# Altium integrated library NSC Switch Caps.IntLib: 108 symbols (part 2 of 3)
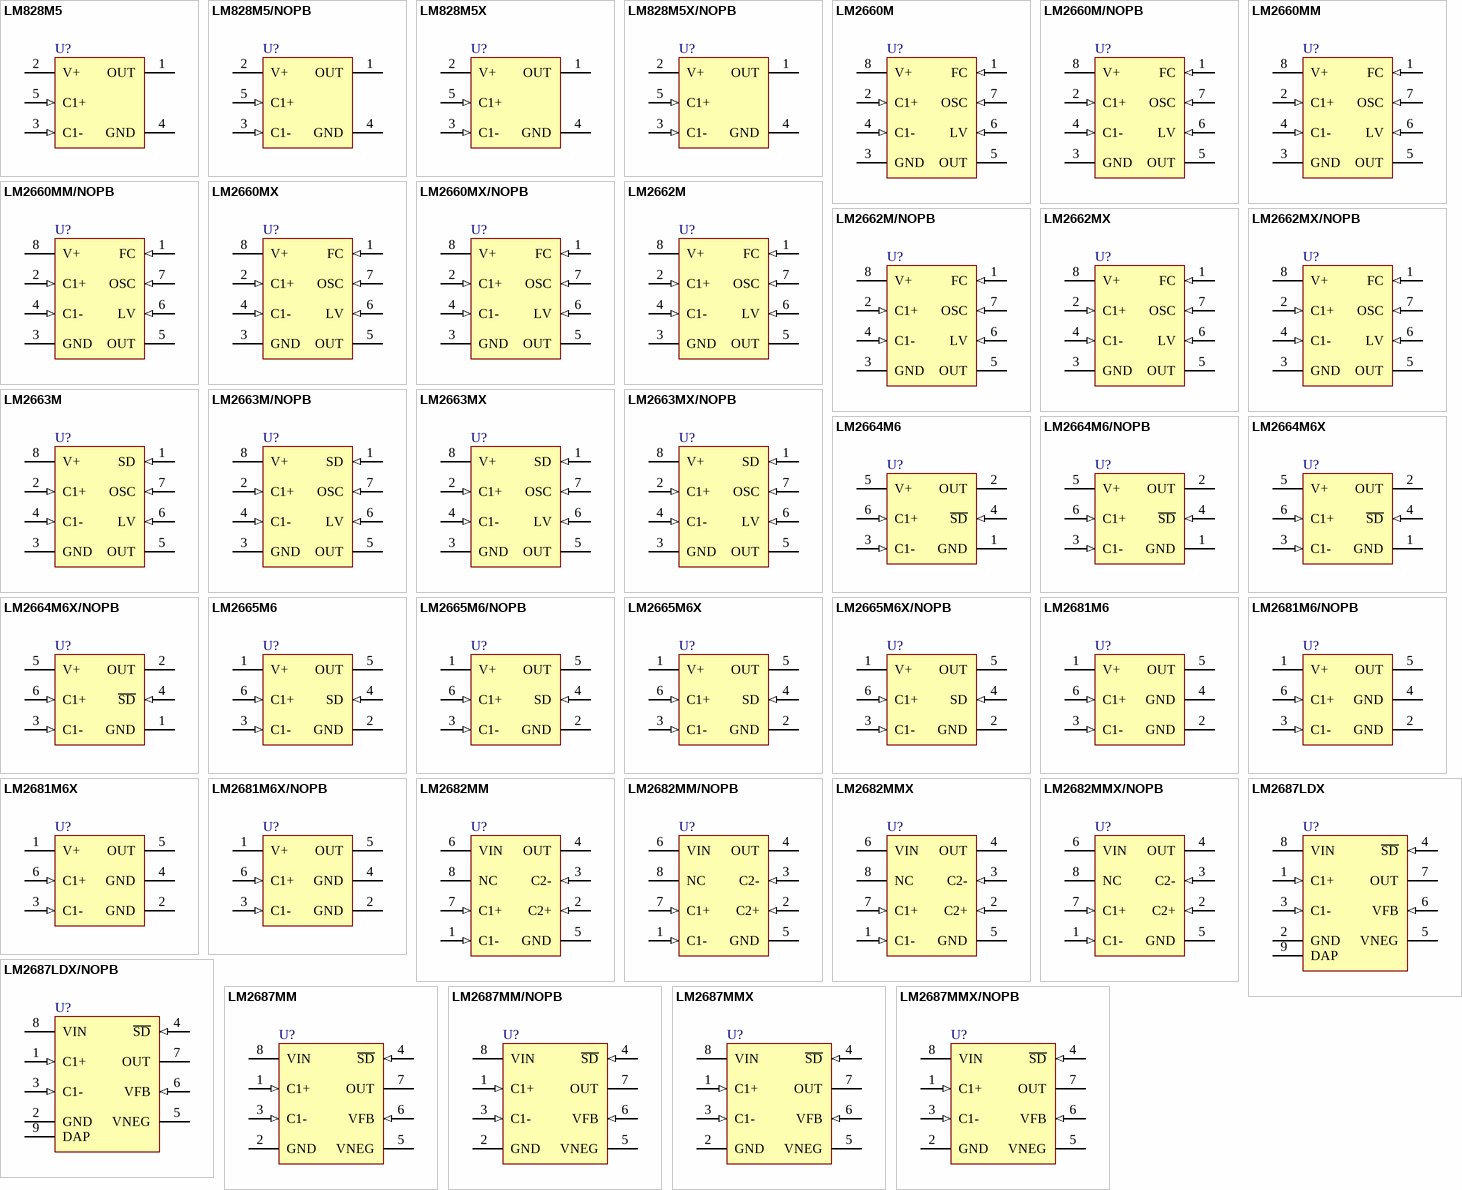
[diagram p3: symbols LM828M5 to LM2687MMX/NOPB]

## LM2687MMX/NOPB
designator U?
Low Noise Regulated Switched Capacitor Voltage Inverter, 8-pin Mini SOIC, Pb-Free; PartNumber: LM2687MMX/NOPB; Manufacturer: National Semiconductor; PackageTopMarking: ZXTT*S12A; PowerWise: N; CompType: Switch Caps; Published: 1-Mar-2010; DatasheetVersion: Apr-2003; PackageVersion: revF, Apr-2008; PackageReference: MUA08A; Publisher: Altium Limited; PackageDescription: MINI SOIC, .118 x .118 x .034in, 8 Lead, .0256in Pitch; Supplier 1: Digi-Key; Supplier Part Number 1: LM2687MMX-ND; RoHS: Y; PinCount: 8; Code_JEDEC: MO-187-AA; ComponentLink1Description: LM2687 Datasheet; ComponentLink1URL: http://www.national.com/ds/LM/LM2687.pdf; ComponentLink2Description: LM2687 Web Page; ComponentLink2URL: http://www.national.com/pf/LM/LM2687.html; ComponentLink3Description: MUA08A Package Page; ComponentLink3URL: http://www.national.com/packaging/folders/mua08a.html
footprint MUA08A_N (TSOP, 8-Leads, Body 3x3mm, Pitch 0.65mm, IPC Medium Density)
footprint MUA08A_L (TSOP, 8-Leads, Body 3x3mm, Pitch 0.65mm, IPC High Density)
footprint MUA08A_M (TSOP, 8-Leads, Body 3x3mm, Pitch 0.65mm, IPC Low Density)
pins: 1 C1+ (in), 2 GND (power), 3 C1- (in), 4 ~{SD} (in), 5 VNEG (power), 6 VFB (in), 7 OUT (power), 8 VIN (power)

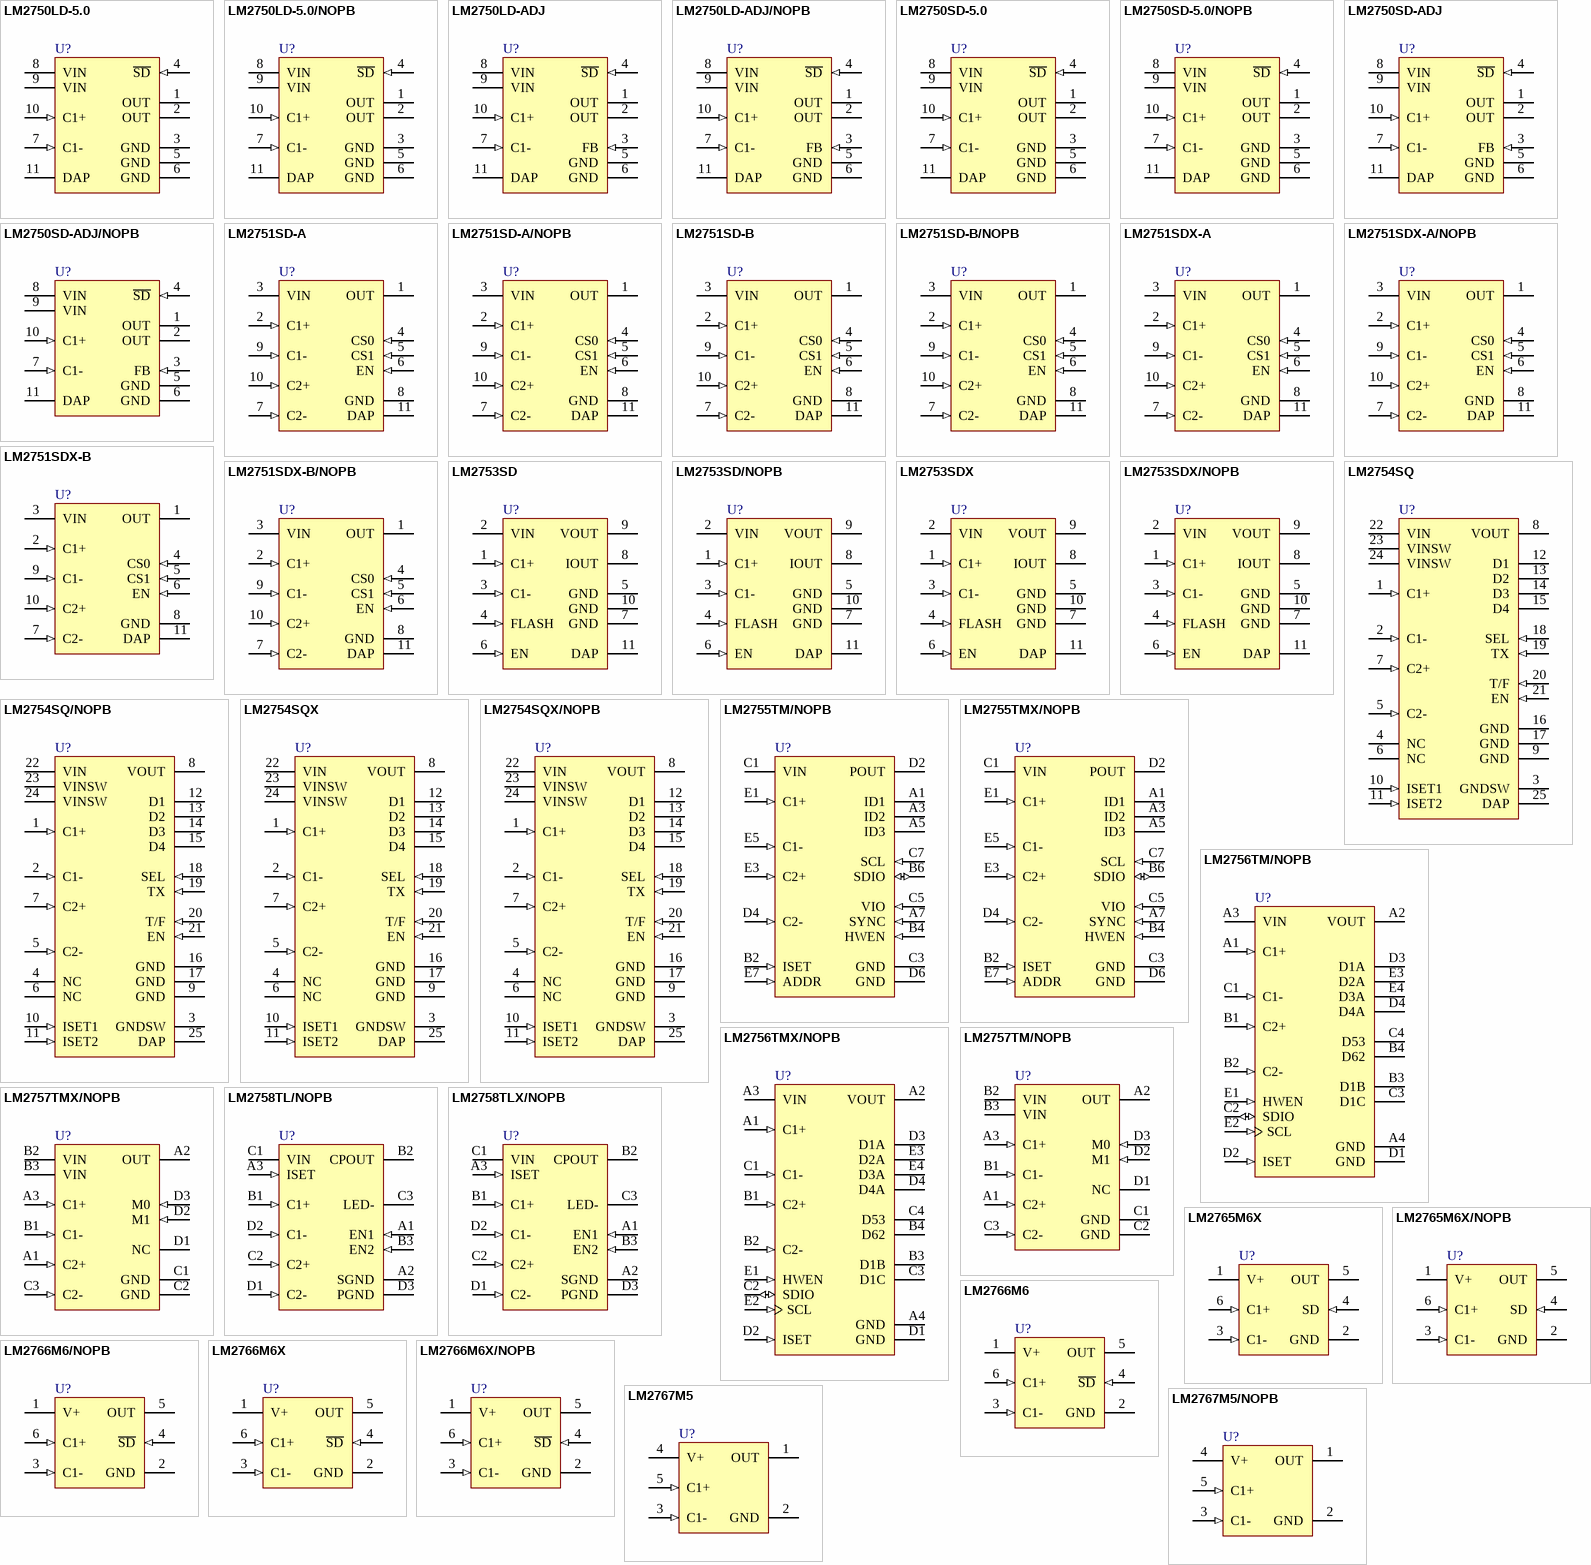
[diagram p1: symbols LM2750LD-5.0 to LM2767M5/NOPB]

## LM2750LD-5.0
designator U?
Low Noise Regulator Switched Capacitor Boost Regulator, 10-pin LLP; PartNumber: LM2750LD-5.0; Manufacturer: National Semiconductor; PackageTopMarking: ZXYTT*S002B; PowerWise: N; CompType: Switch Caps; Published: 4-Dec-2008; DatasheetVersion: Dec-2005; PackageVersion: revB, Jan-2003; PackageReference: LDA10A; Publisher: Altium Limited; PackageDescription: LLP, Plastic, Dual, 3 x 3 x 0.75mm Body, 10 Lead, 0.5mm Pitch; Supplier 1: Farnell; Supplier Part Number 1: 8221979; RoHS: N; PinCount: 10; ComponentLink1Description: LM2750 Datasheet; ComponentLink1URL: http://www.national.com/ds/LM/LM2750.pdf; ComponentLink2Description: LM2750 Web Page; ComponentLink2URL: http://www.national.com/pf/LM/LM2750.html; ComponentLink3Description: LDA10A Package Page; ComponentLink3URL: http://www.national.com/packaging/folders/lda10a.html
footprint LDA10A (PSON, 10-Leads, Body 3x3mm, Pitch 0.5mm, NSC Recommended)
pins: 1 OUT (power), 2 OUT (power), 3 GND (power), 4 ~{SD} (in), 5 GND (power), 6 GND (power), 7 C1- (in), 8 VIN (power), 9 VIN (power), 10 C1+ (in), 11 DAP (power)

## LM2750LD-5.0/NOPB
designator U?
Low Noise Regulator Switched Capacitor Boost Regulator, 10-pin LLP, Pb-Free; PartNumber: LM2750LD-5.0/NOPB; Manufacturer: National Semiconductor; PackageTopMarking: ZXYTT*S002B; PowerWise: N; CompType: Switch Caps; Published: 1-Mar-2010; DatasheetVersion: Dec-2005; PackageVersion: revB, Jan-2003; PackageReference: LDA10A; Publisher: Altium Limited; PackageDescription: LLP, Plastic, Dual, 3 x 3 x 0.75mm Body, 10 Lead, 0.5mm Pitch; Supplier 1: Digi-Key; Supplier Part Number 1: LM2750LD-5.0TR-ND; Supplier 2: Digi-Key; Supplier Part Number 2: LM2750LD-5.0CT-ND; Supplier 3: Digi-Key; Supplier Part Number 3: LM2750LD-5.0DKR-ND; Supplier 4: Farnell; Supplier Part Number 4: 1559420; RoHS: Y; PinCount: 10; ComponentLink1Description: LM2750 Datasheet; ComponentLink1URL: http://www.national.com/ds/LM/LM2750.pdf; ComponentLink2Description: LM2750 Web Page; ComponentLink2URL: http://www.national.com/pf/LM/LM2750.html; ComponentLink3Description: LDA10A Package Page; ComponentLink3URL: http://www.national.com/packaging/folders/lda10a.html
footprint LDA10A (PSON, 10-Leads, Body 3x3mm, Pitch 0.5mm, NSC Recommended)
pins: 1 OUT (power), 2 OUT (power), 3 GND (power), 4 ~{SD} (in), 5 GND (power), 6 GND (power), 7 C1- (in), 8 VIN (power), 9 VIN (power), 10 C1+ (in), 11 DAP (power)

## LM2750LD-ADJ
designator U?
Low Noise Regulator Switched Capacitor Boost Regulator, 10-pin LLP; PartNumber: LM2750LD-ADJ; Manufacturer: National Semiconductor; PackageTopMarking: ZXYTT*S003B; PowerWise: N; CompType: Switch Caps; Published: 4-Dec-2008; DatasheetVersion: Dec-2005; PackageVersion: revB, Jan-2003; PackageReference: LDA10A; Publisher: Altium Limited; PackageDescription: LLP, Plastic, Dual, 3 x 3 x 0.75mm Body, 10 Lead, 0.5mm Pitch; Supplier 1: Farnell; Supplier Part Number 1: 1312689; RoHS: N; PinCount: 10; ComponentLink1Description: LM2750 Datasheet; ComponentLink1URL: http://www.national.com/ds/LM/LM2750.pdf; ComponentLink2Description: LM2750 Web Page; ComponentLink2URL: http://www.national.com/pf/LM/LM2750.html; ComponentLink3Description: LDA10A Package Page; ComponentLink3URL: http://www.national.com/packaging/folders/lda10a.html
footprint LDA10A (PSON, 10-Leads, Body 3x3mm, Pitch 0.5mm, NSC Recommended)
pins: 1 OUT (power), 2 OUT (power), 3 FB (in), 4 ~{SD} (in), 5 GND (power), 6 GND (power), 7 C1- (in), 8 VIN (power), 9 VIN (power), 10 C1+ (in), 11 DAP (power)

## LM2750LD-ADJ/NOPB
designator U?
Low Noise Regulator Switched Capacitor Boost Regulator, 10-pin LLP, Pb-Free; PartNumber: LM2750LD-ADJ/NOPB; Manufacturer: National Semiconductor; PackageTopMarking: ZXYTT*S003B; PowerWise: N; CompType: Switch Caps; Published: 1-Mar-2010; DatasheetVersion: Dec-2005; PackageVersion: revB, Jan-2003; PackageReference: LDA10A; Publisher: Altium Limited; PackageDescription: LLP, Plastic, Dual, 3 x 3 x 0.75mm Body, 10 Lead, 0.5mm Pitch; Supplier 1: Digi-Key; Supplier Part Number 1: LM2750LD-ADJTR-ND; Supplier 2: Digi-Key; Supplier Part Number 2: LM2750LD-ADJCT-ND; Supplier 3: Digi-Key; Supplier Part Number 3: LM2750LD-ADJDKR-ND; RoHS: Y; PinCount: 10; ComponentLink1Description: LM2750 Datasheet; ComponentLink1URL: http://www.national.com/ds/LM/LM2750.pdf; ComponentLink2Description: LM2750 Web Page; ComponentLink2URL: http://www.national.com/pf/LM/LM2750.html; ComponentLink3Description: LDA10A Package Page; ComponentLink3URL: http://www.national.com/packaging/folders/lda10a.html
footprint LDA10A (PSON, 10-Leads, Body 3x3mm, Pitch 0.5mm, NSC Recommended)
pins: 1 OUT (power), 2 OUT (power), 3 FB (in), 4 ~{SD} (in), 5 GND (power), 6 GND (power), 7 C1- (in), 8 VIN (power), 9 VIN (power), 10 C1+ (in), 11 DAP (power)

## LM2750SD-5.0
designator U?
Low Noise Regulator Switched Capacitor Boost Regulator, 10-pin LLP; PartNumber: LM2750SD-5.0; Manufacturer: National Semiconductor; PackageTopMarking: ZXYTT*S005B; PowerWise: N; CompType: Switch Caps; Published: 4-Dec-2008; DatasheetVersion: Dec-2005; PackageVersion: revA, Oct-2003; PackageReference: SDA10A; Publisher: Altium Limited; PackageDescription: LLP, Plastic, Dual, 3 x 3 x 0.8mm Body, 10 Lead, 0.5mm Pitch, No Pullback; RoHS: N; PinCount: 10; ComponentLink1Description: LM2750 Datasheet; ComponentLink1URL: http://www.national.com/ds/LM/LM2750.pdf; ComponentLink2Description: LM2750 Web Page; ComponentLink2URL: http://www.national.com/pf/LM/LM2750.html; ComponentLink3Description: SDA10A Package Page; ComponentLink3URL: http://www.national.com/packaging/folders/sda10a.html
footprint SDA10A (SON, 10-Leads, Body 3x3 mm, Pitch 0.5mm, NSC Recommended)
pins: 1 OUT (power), 2 OUT (power), 3 GND (power), 4 ~{SD} (in), 5 GND (power), 6 GND (power), 7 C1- (in), 8 VIN (power), 9 VIN (power), 10 C1+ (in), 11 DAP (power)

## LM2750SD-5.0/NOPB
designator U?
Low Noise Regulator Switched Capacitor Boost Regulator, 10-pin LLP, Pb-Free; PartNumber: LM2750SD-5.0/NOPB; Manufacturer: National Semiconductor; PackageTopMarking: ZXYTT*S005B; PowerWise: N; CompType: Switch Caps; Published: 1-Mar-2010; DatasheetVersion: Dec-2005; PackageVersion: revA, Oct-2003; PackageReference: SDA10A; Publisher: Altium Limited; PackageDescription: LLP, Plastic, Dual, 3 x 3 x 0.8mm Body, 10 Lead, 0.5mm Pitch, No Pullback; Supplier 1: Digi-Key; Supplier Part Number 1: LM2750SD-5.0TR-ND; Supplier 2: Digi-Key; Supplier Part Number 2: LM2750SD-5.0CT-ND; Supplier 3: Digi-Key; Supplier Part Number 3: LM2750SD-5.0DKR-ND; Supplier 4: Farnell; Supplier Part Number 4: 1685760; RoHS: Y; PinCount: 10; ComponentLink1Description: LM2750 Datasheet; ComponentLink1URL: http://www.national.com/ds/LM/LM2750.pdf; ComponentLink2Description: LM2750 Web Page; ComponentLink2URL: http://www.national.com/pf/LM/LM2750.html; ComponentLink3Description: SDA10A Package Page; ComponentLink3URL: http://www.national.com/packaging/folders/sda10a.html
footprint SDA10A (SON, 10-Leads, Body 3x3 mm, Pitch 0.5mm, NSC Recommended)
pins: 1 OUT (power), 2 OUT (power), 3 GND (power), 4 ~{SD} (in), 5 GND (power), 6 GND (power), 7 C1- (in), 8 VIN (power), 9 VIN (power), 10 C1+ (in), 11 DAP (power)

## LM2750SD-ADJ
designator U?
Low Noise Regulator Switched Capacitor Boost Regulator, 10-pin LLP; PartNumber: LM2750SD-ADJ; Manufacturer: National Semiconductor; PackageTopMarking: ZXYTT*S004B; PowerWise: N; CompType: Switch Caps; Published: 4-Dec-2008; DatasheetVersion: Dec-2005; PackageVersion: revA, Oct-2003; PackageReference: SDA10A; Publisher: Altium Limited; PackageDescription: LLP, Plastic, Dual, 3 x 3 x 0.8mm Body, 10 Lead, 0.5mm Pitch, No Pullback; RoHS: N; PinCount: 10; ComponentLink1Description: LM2750 Datasheet; ComponentLink1URL: http://www.national.com/ds/LM/LM2750.pdf; ComponentLink2Description: LM2750 Web Page; ComponentLink2URL: http://www.national.com/pf/LM/LM2750.html; ComponentLink3Description: SDA10A Package Page; ComponentLink3URL: http://www.national.com/packaging/folders/sda10a.html
footprint SDA10A (SON, 10-Leads, Body 3x3 mm, Pitch 0.5mm, NSC Recommended)
pins: 1 OUT (power), 2 OUT (power), 3 FB (in), 4 ~{SD} (in), 5 GND (power), 6 GND (power), 7 C1- (in), 8 VIN (power), 9 VIN (power), 10 C1+ (in), 11 DAP (power)

## LM2750SD-ADJ/NOPB
designator U?
Low Noise Regulator Switched Capacitor Boost Regulator, 10-pin LLP, Pb-Free; PartNumber: LM2750SD-ADJ/NOPB; Manufacturer: National Semiconductor; PackageTopMarking: ZXYTT*S004B; PowerWise: N; CompType: Switch Caps; Published: 1-Mar-2010; DatasheetVersion: Dec-2005; PackageVersion: revA, Oct-2003; PackageReference: SDA10A; Publisher: Altium Limited; PackageDescription: LLP, Plastic, Dual, 3 x 3 x 0.8mm Body, 10 Lead, 0.5mm Pitch, No Pullback; Supplier 1: Digi-Key; Supplier Part Number 1: LM2750SD-ADJTR-ND; Supplier 2: Digi-Key; Supplier Part Number 2: LM2750SD-ADJCT-ND; Supplier 3: Digi-Key; Supplier Part Number 3: LM2750SD-ADJDKR-ND; RoHS: Y; PinCount: 10; ComponentLink1Description: LM2750 Datasheet; ComponentLink1URL: http://www.national.com/ds/LM/LM2750.pdf; ComponentLink2Description: LM2750 Web Page; ComponentLink2URL: http://www.national.com/pf/LM/LM2750.html; ComponentLink3Description: SDA10A Package Page; ComponentLink3URL: http://www.national.com/packaging/folders/sda10a.html
footprint SDA10A (SON, 10-Leads, Body 3x3 mm, Pitch 0.5mm, NSC Recommended)
pins: 1 OUT (power), 2 OUT (power), 3 FB (in), 4 ~{SD} (in), 5 GND (power), 6 GND (power), 7 C1- (in), 8 VIN (power), 9 VIN (power), 10 C1+ (in), 11 DAP (power)

## LM2751SD-A
designator U?
Regulated 2X, 1.5X Switched Capacitor White LED Driver, 10-pin LLP; PartNumber: LM2751SD-A; Manufacturer: National Semiconductor; PackageTopMarking: ZXYTT*L145B; PowerWise: N; CompType: Switch Caps; Published: 1-Mar-2010; DatasheetVersion: Apr-2005; PackageVersion: revA, Oct-2003; PackageReference: SDA10A; Publisher: Altium Limited; PackageDescription: LLP, Plastic, Dual, 3 x 3 x 0.8mm Body, 10 Lead, 0.5mm Pitch, No Pullback; Supplier 1: Farnell; Supplier Part Number 1: 1312555; RoHS: N; PinCount: 10; ComponentLink1Description: LM2751 Datasheet; ComponentLink1URL: http://www.national.com/ds/LM/LM2751.pdf; ComponentLink2Description: LM2751 Web Page; ComponentLink2URL: http://www.national.com/pf/LM/LM2751.html; ComponentLink3Description: SDA10A Package Page; ComponentLink3URL: http://www.national.com/packaging/folders/sda10a.html
footprint SDA10A (SON, 10-Leads, Body 3x3 mm, Pitch 0.5mm, NSC Recommended)
pins: 1 OUT (power), 2 C1+ (in), 3 VIN (power), 4 CS0 (in), 5 CS1 (in), 6 EN (in), 7 C2- (in), 8 GND (power), 9 C1- (in), 10 C2+ (in), 11 DAP (power)

## LM2751SD-A/NOPB
designator U?
Regulated 2X, 1.5X Switched Capacitor White LED Driver, 10-pin LLP, Pb-Free; PartNumber: LM2751SD-A/NOPB; Manufacturer: National Semiconductor; PackageTopMarking: ZXYTT*L145B; PowerWise: N; CompType: Switch Caps; Published: 1-Mar-2010; DatasheetVersion: Apr-2005; PackageVersion: revA, Oct-2003; PackageReference: SDA10A; Publisher: Altium Limited; PackageDescription: LLP, Plastic, Dual, 3 x 3 x 0.8mm Body, 10 Lead, 0.5mm Pitch, No Pullback; Supplier 1: Digi-Key; Supplier Part Number 1: LM2751SD-ATR-ND; Supplier 2: Digi-Key; Supplier Part Number 2: LM2751SD-ACT-ND; Supplier 3: Digi-Key; Supplier Part Number 3: LM2751SD-ADKR-ND; Supplier 4: Farnell; Supplier Part Number 4: 1675271; RoHS: Y; PinCount: 10; ComponentLink1Description: LM2751 Datasheet; ComponentLink1URL: http://www.national.com/ds/LM/LM2751.pdf; ComponentLink2Description: LM2751 Web Page; ComponentLink2URL: http://www.national.com/pf/LM/LM2751.html; ComponentLink3Description: SDA10A Package Page; ComponentLink3URL: http://www.national.com/packaging/folders/sda10a.html
footprint SDA10A (SON, 10-Leads, Body 3x3 mm, Pitch 0.5mm, NSC Recommended)
pins: 1 OUT (power), 2 C1+ (in), 3 VIN (power), 4 CS0 (in), 5 CS1 (in), 6 EN (in), 7 C2- (in), 8 GND (power), 9 C1- (in), 10 C2+ (in), 11 DAP (power)

## LM2751SD-B
designator U?
Regulated 2X, 1.5X Switched Capacitor White LED Driver, 10-pin LLP; PartNumber: LM2751SD-B; Manufacturer: National Semiconductor; PackageTopMarking: ZXYTT*L146B; PowerWise: N; CompType: Switch Caps; Published: 4-Dec-2008; DatasheetVersion: Apr-2005; PackageVersion: revA, Oct-2003; PackageReference: SDA10A; Publisher: Altium Limited; PackageDescription: LLP, Plastic, Dual, 3 x 3 x 0.8mm Body, 10 Lead, 0.5mm Pitch, No Pullback; Supplier 1: Farnell; Supplier Part Number 1: 1312557; RoHS: N; PinCount: 10; ComponentLink1Description: LM2751 Datasheet; ComponentLink1URL: http://www.national.com/ds/LM/LM2751.pdf; ComponentLink2Description: LM2751 Web Page; ComponentLink2URL: http://www.national.com/pf/LM/LM2751.html; ComponentLink3Description: SDA10A Package Page; ComponentLink3URL: http://www.national.com/packaging/folders/sda10a.html
footprint SDA10A (SON, 10-Leads, Body 3x3 mm, Pitch 0.5mm, NSC Recommended)
pins: 1 OUT (power), 2 C1+ (in), 3 VIN (power), 4 CS0 (in), 5 CS1 (in), 6 EN (in), 7 C2- (in), 8 GND (power), 9 C1- (in), 10 C2+ (in), 11 DAP (power)

## LM2751SD-B/NOPB
designator U?
Regulated 2X, 1.5X Switched Capacitor White LED Driver, 10-pin LLP, Pb-Free; PartNumber: LM2751SD-B/NOPB; Manufacturer: National Semiconductor; PackageTopMarking: ZXYTT*L146B; PowerWise: N; CompType: Switch Caps; Published: 1-Mar-2010; DatasheetVersion: Apr-2005; PackageVersion: revA, Oct-2003; PackageReference: SDA10A; Publisher: Altium Limited; PackageDescription: LLP, Plastic, Dual, 3 x 3 x 0.8mm Body, 10 Lead, 0.5mm Pitch, No Pullback; Supplier 1: Digi-Key; Supplier Part Number 1: LM2751SD-BTR-ND; Supplier 2: Digi-Key; Supplier Part Number 2: LM2751SD-BCT-ND; Supplier 3: Digi-Key; Supplier Part Number 3: LM2751SD-BDKR-ND; RoHS: Y; PinCount: 10; ComponentLink1Description: LM2751 Datasheet; ComponentLink1URL: http://www.national.com/ds/LM/LM2751.pdf; ComponentLink2Description: LM2751 Web Page; ComponentLink2URL: http://www.national.com/pf/LM/LM2751.html; ComponentLink3Description: SDA10A Package Page; ComponentLink3URL: http://www.national.com/packaging/folders/sda10a.html
footprint SDA10A (SON, 10-Leads, Body 3x3 mm, Pitch 0.5mm, NSC Recommended)
pins: 1 OUT (power), 2 C1+ (in), 3 VIN (power), 4 CS0 (in), 5 CS1 (in), 6 EN (in), 7 C2- (in), 8 GND (power), 9 C1- (in), 10 C2+ (in), 11 DAP (power)

## LM2751SDX-A
designator U?
Regulated 2X, 1.5X Switched Capacitor White LED Driver, 10-pin LLP; PartNumber: LM2751SDX-A; Manufacturer: National Semiconductor; PackageTopMarking: ZXYTT*L145B; PowerWise: N; CompType: Switch Caps; Published: 1-Mar-2010; DatasheetVersion: Apr-2005; PackageVersion: revA, Oct-2003; PackageReference: SDA10A; Publisher: Altium Limited; PackageDescription: LLP, Plastic, Dual, 3 x 3 x 0.8mm Body, 10 Lead, 0.5mm Pitch, No Pullback; RoHS: N; PinCount: 10; ComponentLink1Description: LM2751 Datasheet; ComponentLink1URL: http://www.national.com/ds/LM/LM2751.pdf; ComponentLink2Description: LM2751 Web Page; ComponentLink2URL: http://www.national.com/pf/LM/LM2751.html; ComponentLink3Description: SDA10A Package Page; ComponentLink3URL: http://www.national.com/packaging/folders/sda10a.html
footprint SDA10A (SON, 10-Leads, Body 3x3 mm, Pitch 0.5mm, NSC Recommended)
pins: 1 OUT (power), 2 C1+ (in), 3 VIN (power), 4 CS0 (in), 5 CS1 (in), 6 EN (in), 7 C2- (in), 8 GND (power), 9 C1- (in), 10 C2+ (in), 11 DAP (power)

## LM2751SDX-A/NOPB
designator U?
Regulated 2X, 1.5X Switched Capacitor White LED Driver, 10-pin LLP, Pb-Free; PartNumber: LM2751SDX-A/NOPB; Manufacturer: National Semiconductor; PackageTopMarking: ZXYTT*L145B; PowerWise: N; CompType: Switch Caps; Published: 1-Mar-2010; DatasheetVersion: Apr-2005; PackageVersion: revA, Oct-2003; PackageReference: SDA10A; Publisher: Altium Limited; PackageDescription: LLP, Plastic, Dual, 3 x 3 x 0.8mm Body, 10 Lead, 0.5mm Pitch, No Pullback; Supplier 1: Digi-Key; Supplier Part Number 1: LM2751SDX-A-ND; RoHS: Y; PinCount: 10; ComponentLink1Description: LM2751 Datasheet; ComponentLink1URL: http://www.national.com/ds/LM/LM2751.pdf; ComponentLink2Description: LM2751 Web Page; ComponentLink2URL: http://www.national.com/pf/LM/LM2751.html; ComponentLink3Description: SDA10A Package Page; ComponentLink3URL: http://www.national.com/packaging/folders/sda10a.html
footprint SDA10A (SON, 10-Leads, Body 3x3 mm, Pitch 0.5mm, NSC Recommended)
pins: 1 OUT (power), 2 C1+ (in), 3 VIN (power), 4 CS0 (in), 5 CS1 (in), 6 EN (in), 7 C2- (in), 8 GND (power), 9 C1- (in), 10 C2+ (in), 11 DAP (power)

## LM2751SDX-B
designator U?
Regulated 2X, 1.5X Switched Capacitor White LED Driver, 10-pin LLP; PartNumber: LM2751SDX-B; Manufacturer: National Semiconductor; PackageTopMarking: ZXYTT*L146B; PowerWise: N; CompType: Switch Caps; Published: 1-Mar-2010; DatasheetVersion: Apr-2005; PackageVersion: revA, Oct-2003; PackageReference: SDA10A; Publisher: Altium Limited; PackageDescription: LLP, Plastic, Dual, 3 x 3 x 0.8mm Body, 10 Lead, 0.5mm Pitch, No Pullback; RoHS: N; PinCount: 10; ComponentLink1Description: LM2751 Datasheet; ComponentLink1URL: http://www.national.com/ds/LM/LM2751.pdf; ComponentLink2Description: LM2751 Web Page; ComponentLink2URL: http://www.national.com/pf/LM/LM2751.html; ComponentLink3Description: SDA10A Package Page; ComponentLink3URL: http://www.national.com/packaging/folders/sda10a.html
footprint SDA10A (SON, 10-Leads, Body 3x3 mm, Pitch 0.5mm, NSC Recommended)
pins: 1 OUT (power), 2 C1+ (in), 3 VIN (power), 4 CS0 (in), 5 CS1 (in), 6 EN (in), 7 C2- (in), 8 GND (power), 9 C1- (in), 10 C2+ (in), 11 DAP (power)

## LM2751SDX-B/NOPB
designator U?
Regulated 2X, 1.5X Switched Capacitor White LED Driver, 10-pin LLP, Pb-Free; PartNumber: LM2751SDX-B/NOPB; Manufacturer: National Semiconductor; PackageTopMarking: ZXYTT*L146B; PowerWise: N; CompType: Switch Caps; Published: 1-Mar-2010; DatasheetVersion: Apr-2005; PackageVersion: revA, Oct-2003; PackageReference: SDA10A; Publisher: Altium Limited; PackageDescription: LLP, Plastic, Dual, 3 x 3 x 0.8mm Body, 10 Lead, 0.5mm Pitch, No Pullback; Supplier 1: Digi-Key; Supplier Part Number 1: LM2751SDX-B-ND; RoHS: Y; PinCount: 10; ComponentLink1Description: LM2751 Datasheet; ComponentLink1URL: http://www.national.com/ds/LM/LM2751.pdf; ComponentLink2Description: LM2751 Web Page; ComponentLink2URL: http://www.national.com/pf/LM/LM2751.html; ComponentLink3Description: SDA10A Package Page; ComponentLink3URL: http://www.national.com/packaging/folders/sda10a.html
footprint SDA10A (SON, 10-Leads, Body 3x3 mm, Pitch 0.5mm, NSC Recommended)
pins: 1 OUT (power), 2 C1+ (in), 3 VIN (power), 4 CS0 (in), 5 CS1 (in), 6 EN (in), 7 C2- (in), 8 GND (power), 9 C1- (in), 10 C2+ (in), 11 DAP (power)

## LM2753SD
designator U?
High Power Switched Capacitor Voltage Convertor/Flash LED Driver, 10-pin LLP; PartNumber: LM2753SD; Manufacturer: National Semiconductor; PackageTopMarking: ZXYTT*D004B; PowerWise: N; CompType: Switch Caps; Published: 1-Mar-2010; DatasheetVersion: Nov-2006; PackageVersion: revA, Oct-2003; PackageReference: SDA10A; Publisher: Altium Limited; PackageDescription: LLP, Plastic, Dual, 3 x 3 x 0.8mm Body, 10 Lead, 0.5mm Pitch, No Pullback; Supplier 1: Farnell; Supplier Part Number 1: 1312690; RoHS: N; PinCount: 10; ComponentLink1Description: LM2753 Datasheet; ComponentLink1URL: http://www.national.com/ds/LM/LM2753.pdf; ComponentLink2Description: LM2753 Web Page; ComponentLink2URL: http://www.national.com/pf/LM/LM2753.html; ComponentLink3Description: SDA10A Package Page; ComponentLink3URL: http://www.national.com/packaging/folders/sda10a.html
footprint SDA10A (SON, 10-Leads, Body 3x3 mm, Pitch 0.5mm, NSC Recommended)
pins: 1 C1+ (in), 2 VIN (power), 3 C1- (in), 4 FLASH (in), 5 GND (power), 6 EN (in), 7 GND (power), 8 IOUT (power), 9 VOUT (power), 10 GND (power), 11 DAP (power)

## LM2753SD/NOPB
designator U?
High Power Switched Capacitor Voltage Convertor/Flash LED Driver, 10-pin LLP, Pb-Free; PartNumber: LM2753SD/NOPB; Manufacturer: National Semiconductor; PackageTopMarking: ZXYTT*D004B; PowerWise: N; CompType: Switch Caps; Published: 1-Mar-2010; DatasheetVersion: Nov-2006; PackageVersion: revA, Oct-2003; PackageReference: SDA10A; Publisher: Altium Limited; PackageDescription: LLP, Plastic, Dual, 3 x 3 x 0.8mm Body, 10 Lead, 0.5mm Pitch, No Pullback; Supplier 1: Digi-Key; Supplier Part Number 1: LM2753SDTR-ND; Supplier 2: Digi-Key; Supplier Part Number 2: LM2753SDCT-ND; Supplier 3: Digi-Key; Supplier Part Number 3: LM2753SDDKR-ND; RoHS: Y; PinCount: 10; ComponentLink1Description: LM2753 Datasheet; ComponentLink1URL: http://www.national.com/ds/LM/LM2753.pdf; ComponentLink2Description: LM2753 Web Page; ComponentLink2URL: http://www.national.com/pf/LM/LM2753.html; ComponentLink3Description: SDA10A Package Page; ComponentLink3URL: http://www.national.com/packaging/folders/sda10a.html
footprint SDA10A (SON, 10-Leads, Body 3x3 mm, Pitch 0.5mm, NSC Recommended)
pins: 1 C1+ (in), 2 VIN (power), 3 C1- (in), 4 FLASH (in), 5 GND (power), 6 EN (in), 7 GND (power), 8 IOUT (power), 9 VOUT (power), 10 GND (power), 11 DAP (power)

## LM2753SDX
designator U?
High Power Switched Capacitor Voltage Convertor/Flash LED Driver, 10-pin LLP; PartNumber: LM2753SDX; Manufacturer: National Semiconductor; PackageTopMarking: ZXYTT*D004B; PowerWise: N; CompType: Switch Caps; Published: 1-Mar-2010; DatasheetVersion: Nov-2006; PackageVersion: revA, Oct-2003; PackageReference: SDA10A; Publisher: Altium Limited; PackageDescription: LLP, Plastic, Dual, 3 x 3 x 0.8mm Body, 10 Lead, 0.5mm Pitch, No Pullback; RoHS: N; PinCount: 10; ComponentLink1Description: LM2753 Datasheet; ComponentLink1URL: http://www.national.com/ds/LM/LM2753.pdf; ComponentLink2Description: LM2753 Web Page; ComponentLink2URL: http://www.national.com/pf/LM/LM2753.html; ComponentLink3Description: SDA10A Package Page; ComponentLink3URL: http://www.national.com/packaging/folders/sda10a.html
footprint SDA10A (SON, 10-Leads, Body 3x3 mm, Pitch 0.5mm, NSC Recommended)
pins: 1 C1+ (in), 2 VIN (power), 3 C1- (in), 4 FLASH (in), 5 GND (power), 6 EN (in), 7 GND (power), 8 IOUT (power), 9 VOUT (power), 10 GND (power), 11 DAP (power)

## LM2753SDX/NOPB
designator U?
High Power Switched Capacitor Voltage Convertor/Flash LED Driver, 10-pin LLP, Pb-Free; PartNumber: LM2753SDX/NOPB; Manufacturer: National Semiconductor; PackageTopMarking: ZXYTT*D004B; PowerWise: N; CompType: Switch Caps; Published: 1-Mar-2010; DatasheetVersion: Nov-2006; PackageVersion: revA, Oct-2003; PackageReference: SDA10A; Publisher: Altium Limited; PackageDescription: LLP, Plastic, Dual, 3 x 3 x 0.8mm Body, 10 Lead, 0.5mm Pitch, No Pullback; Supplier 1: Digi-Key; Supplier Part Number 1: LM2753SDX-ND; RoHS: Y; PinCount: 10; ComponentLink1Description: LM2753 Datasheet; ComponentLink1URL: http://www.national.com/ds/LM/LM2753.pdf; ComponentLink2Description: LM2753 Web Page; ComponentLink2URL: http://www.national.com/pf/LM/LM2753.html; ComponentLink3Description: SDA10A Package Page; ComponentLink3URL: http://www.national.com/packaging/folders/sda10a.html
footprint SDA10A (SON, 10-Leads, Body 3x3 mm, Pitch 0.5mm, NSC Recommended)
pins: 1 C1+ (in), 2 VIN (power), 3 C1- (in), 4 FLASH (in), 5 GND (power), 6 EN (in), 7 GND (power), 8 IOUT (power), 9 VOUT (power), 10 GND (power), 11 DAP (power)

## LM2754SQ
designator U?
800mA Switched Capacitor Flash LED Driver with Time-Out Protection, 24-pin LLP; PartNumber: LM2754SQ; Manufacturer: National Semiconductor; PackageTopMarking: NS*UZXYTT*LM2754; PowerWise: Y; CompType: Switch Caps; Published: 4-Dec-2008; DatasheetVersion: Sep-2006; PackageVersion: revB, Aug-2003; PackageReference: SQA24A; Publisher: Altium Limited; PackageDescription: LLP, Plastic, Quad, 4 x 4 x 0.8mm Body, 24 Lead, 0.5mm Pitch, No Pullback; Supplier 1: Farnell; Supplier Part Number 1: 1271395; RoHS: N; PinCount: 24; Code_JEDEC: MO-220-WGGD-6; ComponentLink1Description: LM2754 Datasheet; ComponentLink1URL: http://www.national.com/ds/LM/LM2754.pdf; ComponentLink2Description: LM2754 Web Page; ComponentLink2URL: http://www.national.com/pf/LM/LM2754.html; ComponentLink3Description: SQA24A Package Page; ComponentLink3URL: http://www.national.com/packaging/folders/sqa24a.html
footprint SQA24A (QFN, 24-Leads, Body 4x4mm, Pitch 0.5mm, NSC Recommended)
pins: 1 C1+ (in), 2 C1- (in), 3 GNDSW (power), 4 NC, 5 C2- (in), 6 NC, 7 C2+ (in), 8 VOUT (power), 9 GND (power), 10 ISET1 (in), 11 ISET2 (in), 12 D1 (oc), 13 D2 (oc), 14 D3 (oc), 15 D4 (oc), 16 GND (power), 17 GND (power), 18 SEL (in), 19 TX (in), 20 T/F (in), 21 EN (in), 22 VIN (power), 23 VINSW (power), 24 VINSW (power), 25 DAP (power)

## LM2754SQ/NOPB
designator U?
800mA Switched Capacitor Flash LED Driver with Time-Out Protection, 24-pin LLP, Pb-Free; PartNumber: LM2754SQ/NOPB; Manufacturer: National Semiconductor; PackageTopMarking: NS*UZXYTT*LM2754; PowerWise: Y; CompType: Switch Caps; Published: 1-Mar-2010; DatasheetVersion: Sep-2006; PackageVersion: revB, Aug-2003; PackageReference: SQA24A; Publisher: Altium Limited; PackageDescription: LLP, Plastic, Quad, 4 x 4 x 0.8mm Body, 24 Lead, 0.5mm Pitch, No Pullback; Supplier 1: Digi-Key; Supplier Part Number 1: LM2754SQTR-ND; Supplier 2: Digi-Key; Supplier Part Number 2: LM2754SQCT-ND; Supplier 3: Digi-Key; Supplier Part Number 3: LM2754SQDKR-ND; RoHS: Y; PinCount: 24; Code_JEDEC: MO-220-WGGD-6; ComponentLink1Description: LM2754 Datasheet; ComponentLink1URL: http://www.national.com/ds/LM/LM2754.pdf; ComponentLink2Description: LM2754 Web Page; ComponentLink2URL: http://www.national.com/pf/LM/LM2754.html; ComponentLink3Description: SQA24A Package Page; ComponentLink3URL: http://www.national.com/packaging/folders/sqa24a.html
footprint SQA24A (QFN, 24-Leads, Body 4x4mm, Pitch 0.5mm, NSC Recommended)
pins: 1 C1+ (in), 2 C1- (in), 3 GNDSW (power), 4 NC, 5 C2- (in), 6 NC, 7 C2+ (in), 8 VOUT (power), 9 GND (power), 10 ISET1 (in), 11 ISET2 (in), 12 D1 (oc), 13 D2 (oc), 14 D3 (oc), 15 D4 (oc), 16 GND (power), 17 GND (power), 18 SEL (in), 19 TX (in), 20 T/F (in), 21 EN (in), 22 VIN (power), 23 VINSW (power), 24 VINSW (power), 25 DAP (power)

## LM2754SQX
designator U?
800mA Switched Capacitor Flash LED Driver with Time-Out Protection, 24-pin LLP; PartNumber: LM2754SQX; Manufacturer: National Semiconductor; PackageTopMarking: NS*UZXYTT*LM2754; PowerWise: Y; CompType: Switch Caps; Published: 1-Mar-2010; DatasheetVersion: Sep-2006; PackageVersion: revB, Aug-2003; PackageReference: SQA24A; Publisher: Altium Limited; PackageDescription: LLP, Plastic, Quad, 4 x 4 x 0.8mm Body, 24 Lead, 0.5mm Pitch, No Pullback; RoHS: N; PinCount: 24; Code_JEDEC: MO-220-WGGD-6; ComponentLink1Description: LM2754 Datasheet; ComponentLink1URL: http://www.national.com/ds/LM/LM2754.pdf; ComponentLink2Description: LM2754 Web Page; ComponentLink2URL: http://www.national.com/pf/LM/LM2754.html; ComponentLink3Description: SQA24A Package Page; ComponentLink3URL: http://www.national.com/packaging/folders/sqa24a.html
footprint SQA24A (QFN, 24-Leads, Body 4x4mm, Pitch 0.5mm, NSC Recommended)
pins: 1 C1+ (in), 2 C1- (in), 3 GNDSW (power), 4 NC, 5 C2- (in), 6 NC, 7 C2+ (in), 8 VOUT (power), 9 GND (power), 10 ISET1 (in), 11 ISET2 (in), 12 D1 (oc), 13 D2 (oc), 14 D3 (oc), 15 D4 (oc), 16 GND (power), 17 GND (power), 18 SEL (in), 19 TX (in), 20 T/F (in), 21 EN (in), 22 VIN (power), 23 VINSW (power), 24 VINSW (power), 25 DAP (power)

## LM2754SQX/NOPB
designator U?
800mA Switched Capacitor Flash LED Driver with Time-Out Protection, 24-pin LLP, Pb-Free; PartNumber: LM2754SQX/NOPB; Manufacturer: National Semiconductor; PackageTopMarking: NS*UZXYTT*LM2754; PowerWise: Y; CompType: Switch Caps; Published: 1-Mar-2010; DatasheetVersion: Sep-2006; PackageVersion: revB, Aug-2003; PackageReference: SQA24A; Publisher: Altium Limited; PackageDescription: LLP, Plastic, Quad, 4 x 4 x 0.8mm Body, 24 Lead, 0.5mm Pitch, No Pullback; Supplier 1: Digi-Key; Supplier Part Number 1: LM2754SQX-ND; RoHS: Y; PinCount: 24; Code_JEDEC: MO-220-WGGD-6; ComponentLink1Description: LM2754 Datasheet; ComponentLink1URL: http://www.national.com/ds/LM/LM2754.pdf; ComponentLink2Description: LM2754 Web Page; ComponentLink2URL: http://www.national.com/pf/LM/LM2754.html; ComponentLink3Description: SQA24A Package Page; ComponentLink3URL: http://www.national.com/packaging/folders/sqa24a.html
footprint SQA24A (QFN, 24-Leads, Body 4x4mm, Pitch 0.5mm, NSC Recommended)
pins: 1 C1+ (in), 2 C1- (in), 3 GNDSW (power), 4 NC, 5 C2- (in), 6 NC, 7 C2+ (in), 8 VOUT (power), 9 GND (power), 10 ISET1 (in), 11 ISET2 (in), 12 D1 (oc), 13 D2 (oc), 14 D3 (oc), 15 D4 (oc), 16 GND (power), 17 GND (power), 18 SEL (in), 19 TX (in), 20 T/F (in), 21 EN (in), 22 VIN (power), 23 VINSW (power), 24 VINSW (power), 25 DAP (power)

## LM2755TM/NOPB
designator U?
Charge Pump LED Controller with I2C Compatible Interface, 18-pin Micro SMD, Pb-Free; PartNumber: LM2755TM/NOPB; Manufacturer: National Semiconductor; PackageTopMarking: XYTT*I D32; PowerWise: Y; CompType: Switch Caps; Published: 1-Mar-2010; DatasheetVersion: Oct-2006; PackageVersion: revC, 2007; PackageReference: TMD18AAA; Publisher: Altium Limited; PackageDescription: Thin Micro SMD, 18 Bump, 0.4mm Pitch; Supplier 1: Digi-Key; Supplier Part Number 1: LM2755TMTR-ND; Supplier 2: Digi-Key; Supplier Part Number 2: LM2755TMCT-ND; Supplier 3: Digi-Key; Supplier Part Number 3: LM2755TMDKR-ND; RoHS: Y; PinCount: 18; ComponentLink1Description: LM2755 Datasheet; ComponentLink1URL: http://www.national.com/ds/LM/LM2755.pdf; ComponentLink2Description: LM2755 Web Page; ComponentLink2URL: http://www.national.com/pf/LM/LM2755.html; ComponentLink3Description: TMD18AAA Package Page; ComponentLink3URL: http://www.national.com/packaging/folders/tmd18aaa.html
footprint TMD18AAA (Micro SMD, 18-Leads, Body 1.81x1.62mm, Pitch 0.4mm, NSC Recommended)
pins: A1 ID1 (oc), A3 ID2 (oc), A5 ID3 (oc), A7 SYNC (in), B2 ISET (in), B4 HWEN (in), B6 SDIO (io), C1 VIN (power), C3 GND (power), C5 VIO (in), C7 SCL (in), D2 POUT (power), D4 C2- (in), D6 GND (power), E1 C1+ (in), E3 C2+ (in), E5 C1- (in), E7 ADDR (in)

## LM2755TMX/NOPB
designator U?
Charge Pump LED Controller with I2C Compatible Interface, 18-pin Micro SMD, Pb-Free; PartNumber: LM2755TMX/NOPB; Manufacturer: National Semiconductor; PackageTopMarking: XYTT*I D32; PowerWise: Y; CompType: Switch Caps; Published: 1-Mar-2010; DatasheetVersion: Oct-2006; PackageVersion: revC, 2007; PackageReference: TMD18AAA; Publisher: Altium Limited; PackageDescription: Thin Micro SMD, 18 Bump, 0.4mm Pitch; Supplier 1: Digi-Key; Supplier Part Number 1: LM2755TMX-ND; RoHS: Y; PinCount: 18; ComponentLink1Description: LM2755 Datasheet; ComponentLink1URL: http://www.national.com/ds/LM/LM2755.pdf; ComponentLink2Description: LM2755 Web Page; ComponentLink2URL: http://www.national.com/pf/LM/LM2755.html; ComponentLink3Description: TMD18AAA Package Page; ComponentLink3URL: http://www.national.com/packaging/folders/tmd18aaa.html
footprint TMD18AAA (Micro SMD, 18-Leads, Body 1.81x1.62mm, Pitch 0.4mm, NSC Recommended)
pins: A1 ID1 (oc), A3 ID2 (oc), A5 ID3 (oc), A7 SYNC (in), B2 ISET (in), B4 HWEN (in), B6 SDIO (io), C1 VIN (power), C3 GND (power), C5 VIO (in), C7 SCL (in), D2 POUT (power), D4 C2- (in), D6 GND (power), E1 C1+ (in), E3 C2+ (in), E5 C1- (in), E7 ADDR (in)

## LM2756TM/NOPB
designator U?
Multi-Display Inductorless LED Driver with 32 Exponential Dimming Steps, 20-pin Micro SMD, Pb-Free; PartNumber: LM2756TM/NOPB; Manufacturer: National Semiconductor; PackageTopMarking: XYTT*I DK; PowerWise: Y; CompType: Switch Caps; Published: 1-Mar-2010; DatasheetVersion: Dec-2007; PackageVersion: revD, 2007; PackageReference: TMD20AAA; Publisher: Altium Limited; PackageDescription: Thin Micro SMD, 20 Bump, 0.4mm Pitch; Supplier 1: Digi-Key; Supplier Part Number 1: LM2756TMTR-ND; Supplier 2: Digi-Key; Supplier Part Number 2: LM2756TMCT-ND; Supplier 3: Digi-Key; Supplier Part Number 3: LM2756TMDKR-ND; RoHS: Y; PinCount: 20; ComponentLink1Description: LM2756 Datasheet; ComponentLink1URL: http://www.national.com/ds/LM/LM2756.pdf; ComponentLink2Description: LM2756 Web Page; ComponentLink2URL: http://www.national.com/pf/LM/LM2756.html; ComponentLink3Description: TMD20AAA Package Page; ComponentLink3URL: http://www.national.com/packaging/folders/tmd20aaa.html
footprint TMD20AAA (Micro SMD, 20-Leads, Body 2.02x1.62mm, Pitch 0.4mm, NSC Recommended)
pins: A1 C1+ (in), A2 VOUT (power), A3 VIN (power), A4 GND (power), B1 C2+ (in), B2 C2- (in), B3 D1B (oc), B4 D62 (oc), C1 C1- (in), C2 SDIO (io), C3 D1C (oc), C4 D53 (oc), D1 GND (power), D2 ISET (in), D3 D1A (oc), D4 D4A (oc), E1 HWEN (in), E2 SCL (in), E3 D2A (oc), E4 D3A (oc)

## LM2756TMX/NOPB
designator U?
Multi-Display Inductorless LED Driver with 32 Exponential Dimming Steps, 20-pin Micro SMD, Pb-Free; PartNumber: LM2756TMX/NOPB; Manufacturer: National Semiconductor; PackageTopMarking: XYTT*I DK; PowerWise: Y; CompType: Switch Caps; Published: 1-Mar-2010; DatasheetVersion: Dec-2007; PackageVersion: revD, 2007; PackageReference: TMD20AAA; Publisher: Altium Limited; PackageDescription: Thin Micro SMD, 20 Bump, 0.4mm Pitch; Supplier 1: Digi-Key; Supplier Part Number 1: LM2756TMX-ND; RoHS: Y; PinCount: 20; ComponentLink1Description: LM2756 Datasheet; ComponentLink1URL: http://www.national.com/ds/LM/LM2756.pdf; ComponentLink2Description: LM2756 Web Page; ComponentLink2URL: http://www.national.com/pf/LM/LM2756.html; ComponentLink3Description: TMD20AAA Package Page; ComponentLink3URL: http://www.national.com/packaging/folders/tmd20aaa.html
footprint TMD20AAA (Micro SMD, 20-Leads, Body 2.02x1.62mm, Pitch 0.4mm, NSC Recommended)
pins: A1 C1+ (in), A2 VOUT (power), A3 VIN (power), A4 GND (power), B1 C2+ (in), B2 C2- (in), B3 D1B (oc), B4 D62 (oc), C1 C1- (in), C2 SDIO (io), C3 D1C (oc), C4 D53 (oc), D1 GND (power), D2 ISET (in), D3 D1A (oc), D4 D4A (oc), E1 HWEN (in), E2 SCL (in), E3 D2A (oc), E4 D3A (oc)

## LM2757TM/NOPB
designator U?
Switched Capacitor Boost Regulator with High Impedance Output in Shutdown, 12-pin Micro SMD, Pb-Free; PartNumber: LM2757TM/NOPB; Manufacturer: National Semiconductor; PackageTopMarking: XV*I DL; PowerWise: Y; CompType: Switch Caps; Published: 1-Mar-2010; DatasheetVersion: Aug-2009; PackageVersion: revA, 2008; PackageReference: TMD12AAA; Publisher: Altium Limited; PackageDescription: Thin Micro SMD, 12 Bump, 0.4mm Pitch; Supplier 1: Digi-Key; Supplier Part Number 1: LM2757TMTR-ND; Supplier 2: Digi-Key; Supplier Part Number 2: LM2757TMCT-ND; Supplier 3: Digi-Key; Supplier Part Number 3: LM2757TMDKR-ND; Supplier 4: Farnell; Supplier Part Number 4: 1675312; RoHS: Y; PinCount: 12; ComponentLink1Description: LM2757 Datasheet; ComponentLink1URL: http://www.national.com/ds/LM/LM2757.pdf; ComponentLink2Description: LM2757 Web Page; ComponentLink2URL: http://www.national.com/pf/LM/LM2757.html; ComponentLink3Description: TMD12AAA Package Page; ComponentLink3URL: http://www.national.com/packaging/folders/tmd12aaa.html
footprint TMD12AAA (Micro SMD, 12-Leads, Body 1.62x1.22mm, Pitch 0.4mm, NSC Recommended)
pins: A1 C2+ (in), A2 OUT (power), A3 C1+ (in), B1 C1- (in), B2 VIN (power), B3 VIN (power), C1 GND (power), C2 GND (power), C3 C2- (in), D1 NC, D2 M1 (in), D3 M0 (in)

## LM2757TMX/NOPB
designator U?
Switched Capacitor Boost Regulator with High Impedance Output in Shutdown, 12-pin Micro SMD, Pb-Free; PartNumber: LM2757TMX/NOPB; Manufacturer: National Semiconductor; PackageTopMarking: XV*I DL; PowerWise: Y; CompType: Switch Caps; Published: 1-Mar-2010; DatasheetVersion: Dec-2007; PackageVersion: revA, 2008; PackageReference: TMD12AAA; Publisher: Altium Limited; PackageDescription: Thin Micro SMD, 12 Bump, 0.4mm Pitch; Supplier 1: Digi-Key; Supplier Part Number 1: LM2757TMX-ND; RoHS: Y; PinCount: 12; ComponentLink1Description: LM2757 Datasheet; ComponentLink1URL: http://www.national.com/ds/LM/LM2757.pdf; ComponentLink2Description: LM2757 Web Page; ComponentLink2URL: http://www.national.com/pf/LM/LM2757.html; ComponentLink3Description: TMD12AAA Package Page; ComponentLink3URL: http://www.national.com/packaging/folders/tmd12aaa.html
footprint TMD12AAA (Micro SMD, 12-Leads, Body 1.62x1.22mm, Pitch 0.4mm, NSC Recommended)
pins: A1 C2+ (in), A2 OUT (power), A3 C1+ (in), B1 C1- (in), B2 VIN (power), B3 VIN (power), C1 GND (power), C2 GND (power), C3 C2- (in), D1 NC, D2 M1 (in), D3 M0 (in)

## LM2758TL/NOPB
designator U?
Switched Capacitor Flash LED Driver, 12-pin Micro SMD, Pb-Free; PartNumber: LM2758TL/NOPB; Manufacturer: National Semiconductor; PackageTopMarking: XYTT*I 2758; PowerWise: Y; CompType: Switch Caps; Published: 1-Mar-2010; DatasheetVersion: Oct-2009; PackageVersion: revC, Jan-2004; PackageReference: TLA12AAA; Publisher: Altium Limited; PackageDescription: Thin Micro SMD, 12 Bump (Large), Area Array, 0.5mm Pitch; Supplier 1: Digi-Key; Supplier Part Number 1: LM2758TLTR-ND; Supplier 2: Digi-Key; Supplier Part Number 2: LM2758TLCT-ND; Supplier 3: Digi-Key; Supplier Part Number 3: LM2758TLDKR-ND; RoHS: Y; PinCount: 12; Code_JEDEC: MO-211-DE; ComponentLink1Description: LM2758 Datasheet; ComponentLink1URL: http://www.national.com/ds/LM/LM2758.pdf; ComponentLink2Description: LM2758 Web Page; ComponentLink2URL: http://www.national.com/pf/LM/LM2758.html; ComponentLink3Description: TLA12AAA Package Page; ComponentLink3URL: http://www.national.com/packaging/folders/tla12aaa.html
footprint TLA12AAA (Micro SMD, 12-Leads, Body 2.0x1.52mm, Pitch 0.5mm, NSC Recommended)
pins: A1 EN1 (in), A2 SGND (power), A3 ISET (in), B1 C1+ (in), B2 CPOUT (power), B3 EN2 (in), C1 VIN (power), C2 C2+ (in), C3 LED- (oc), D1 C2- (in), D2 C1- (in), D3 PGND (power)

## LM2758TLX/NOPB
designator U?
Switched Capacitor Flash LED Driver, 12-pin Micro SMD, Pb-Free; PartNumber: LM2758TLX/NOPB; Manufacturer: National Semiconductor; PackageTopMarking: XYTT*I 2758; PowerWise: Y; CompType: Switch Caps; Published: 1-Mar-2010; DatasheetVersion: Apr-2008; PackageVersion: revC, Jan-2004; PackageReference: TLA12AAA; Publisher: Altium Limited; PackageDescription: Thin Micro SMD, 12 Bump (Large), Area Array, 0.5mm Pitch; Supplier 1: Digi-Key; Supplier Part Number 1: LM2758TLX-ND; RoHS: Y; PinCount: 12; Code_JEDEC: MO-211-DE; ComponentLink1Description: LM2758 Datasheet; ComponentLink1URL: http://www.national.com/ds/LM/LM2758.pdf; ComponentLink2Description: LM2758 Web Page; ComponentLink2URL: http://www.national.com/pf/LM/LM2758.html; ComponentLink3Description: TLA12AAA Package Page; ComponentLink3URL: http://www.national.com/packaging/folders/tla12aaa.html
footprint TLA12AAA (Micro SMD, 12-Leads, Body 2.0x1.52mm, Pitch 0.5mm, NSC Recommended)
pins: A1 EN1 (in), A2 SGND (power), A3 ISET (in), B1 C1+ (in), B2 CPOUT (power), B3 EN2 (in), C1 VIN (power), C2 C2+ (in), C3 LED- (oc), D1 C2- (in), D2 C1- (in), D3 PGND (power)

## LM2765M6X
designator U?
Switched Capacitor Voltage Converter, 6-pin SOT-23; PartNumber: LM2765M6X; Manufacturer: National Semiconductor; PackageTopMarking: S15B*XTT; PowerWise: N; CompType: Switch Caps; Published: 1-Mar-2010; DatasheetVersion: Mar-2000; PackageVersion: revC, Sep-2005; PackageReference: MF06A; Publisher: Altium Limited; PackageDescription: Molded SOT-23, .115 x .063 x .040in Body, 6 Lead, .0375in in Pitch; RoHS: N; PinCount: 6; Code_JEDEC: MO-178-AB; Code_IPC: SOT26A-6; ComponentLink1Description: LM2765 Datasheet; ComponentLink1URL: http://www.national.com/ds/LM/LM2765.pdf; ComponentLink2Description: LM2765 Web Page; ComponentLink2URL: http://www.national.com/pf/LM/LM2765.html; ComponentLink3Description: MF06A Package Page; ComponentLink3URL: http://www.national.com/packaging/folders/mf06a.html
footprint MF06A_N (SOT23, 6-Leads, Body 2.9x1.6mm, Pitch 0.95mm, Lead Span 2.8mm, IPC Medium Density)
footprint MF06A_L (SOT23, 6-Leads, Body 2.9x1.6mm, Pitch 0.95mm, Lead Span 2.8mm, IPC High Density)
footprint MF06A_M (SOT23, 6-Leads, Body 2.9x1.6mm, Pitch 0.95mm, Lead Span 2.8mm, IPC Low Density)
pins: 1 V+ (power), 2 GND (power), 3 C1- (in), 4 SD (in), 5 OUT (power), 6 C1+ (in)

## LM2765M6X/NOPB
designator U?
Switched Capacitor Voltage Converter, 6-pin SOT-23, Pb-Free; PartNumber: LM2765M6X/NOPB; Manufacturer: National Semiconductor; PackageTopMarking: S15B*XTT; PowerWise: N; CompType: Switch Caps; Published: 1-Mar-2010; DatasheetVersion: Mar-2000; PackageVersion: revC, Sep-2005; PackageReference: MF06A; Publisher: Altium Limited; PackageDescription: Molded SOT-23, .115 x .063 x .040in Body, 6 Lead, .0375in in Pitch; Supplier 1: Digi-Key; Supplier Part Number 1: LM2765M6X-ND; RoHS: Y; PinCount: 6; Code_JEDEC: MO-178-AB; Code_IPC: SOT26A-6; ComponentLink1Description: LM2765 Datasheet; ComponentLink1URL: http://www.national.com/ds/LM/LM2765.pdf; ComponentLink2Description: LM2765 Web Page; ComponentLink2URL: http://www.national.com/pf/LM/LM2765.html; ComponentLink3Description: MF06A Package Page; ComponentLink3URL: http://www.national.com/packaging/folders/mf06a.html
footprint MF06A_N (SOT23, 6-Leads, Body 2.9x1.6mm, Pitch 0.95mm, Lead Span 2.8mm, IPC Medium Density)
footprint MF06A_L (SOT23, 6-Leads, Body 2.9x1.6mm, Pitch 0.95mm, Lead Span 2.8mm, IPC High Density)
footprint MF06A_M (SOT23, 6-Leads, Body 2.9x1.6mm, Pitch 0.95mm, Lead Span 2.8mm, IPC Low Density)
pins: 1 V+ (power), 2 GND (power), 3 C1- (in), 4 SD (in), 5 OUT (power), 6 C1+ (in)

## LM2766M6
designator U?
Switched Capacitor Voltage Converter, 6-pin SOT-23; PartNumber: LM2766M6; Manufacturer: National Semiconductor; PackageTopMarking: S16B*XTT; PowerWise: N; CompType: Switch Caps; Published: 4-Dec-2008; DatasheetVersion: Mar-2000; PackageVersion: revC, Sep-2005; PackageReference: MF06A; Publisher: Altium Limited; PackageDescription: Molded SOT-23, .115 x .063 x .040in Body, 6 Lead, .0375in in Pitch; RoHS: N; PinCount: 6; Code_JEDEC: MO-178-AB; Code_IPC: SOT26A-6; ComponentLink1Description: LM2766 Datasheet; ComponentLink1URL: http://www.national.com/ds/LM/LM2766.pdf; ComponentLink2Description: LM2766 Web Page; ComponentLink2URL: http://www.national.com/pf/LM/LM2766.html; ComponentLink3Description: MF06A Package Page; ComponentLink3URL: http://www.national.com/packaging/folders/mf06a.html
footprint MF06A_N (SOT23, 6-Leads, Body 2.9x1.6mm, Pitch 0.95mm, Lead Span 2.8mm, IPC Medium Density)
footprint MF06A_L (SOT23, 6-Leads, Body 2.9x1.6mm, Pitch 0.95mm, Lead Span 2.8mm, IPC High Density)
footprint MF06A_M (SOT23, 6-Leads, Body 2.9x1.6mm, Pitch 0.95mm, Lead Span 2.8mm, IPC Low Density)
pins: 1 V+ (power), 2 GND (power), 3 C1- (in), 4 ~{SD} (in), 5 OUT (power), 6 C1+ (in)

## LM2766M6/NOPB
designator U?
Switched Capacitor Voltage Converter, 6-pin SOT-23, Pb-Free; PartNumber: LM2766M6/NOPB; Manufacturer: National Semiconductor; PackageTopMarking: S16B*XTT; PowerWise: N; CompType: Switch Caps; Published: 1-Mar-2010; DatasheetVersion: Mar-2000; PackageVersion: revC, Sep-2005; PackageReference: MF06A; Publisher: Altium Limited; PackageDescription: Molded SOT-23, .115 x .063 x .040in Body, 6 Lead, .0375in in Pitch; Supplier 1: Digi-Key; Supplier Part Number 1: LM2766M6TR-ND; Supplier 2: Digi-Key; Supplier Part Number 2: LM2766M6CT-ND; Supplier 3: Digi-Key; Supplier Part Number 3: LM2766M6DKR-ND; Supplier 4: Farnell; Supplier Part Number 4: 1685633; RoHS: Y; PinCount: 6; Code_JEDEC: MO-178-AB; Code_IPC: SOT26A-6; ComponentLink1Description: LM2766 Datasheet; ComponentLink1URL: http://www.national.com/ds/LM/LM2766.pdf; ComponentLink2Description: LM2766 Web Page; ComponentLink2URL: http://www.national.com/pf/LM/LM2766.html; ComponentLink3Description: MF06A Package Page; ComponentLink3URL: http://www.national.com/packaging/folders/mf06a.html
footprint MF06A_N (SOT23, 6-Leads, Body 2.9x1.6mm, Pitch 0.95mm, Lead Span 2.8mm, IPC Medium Density)
footprint MF06A_L (SOT23, 6-Leads, Body 2.9x1.6mm, Pitch 0.95mm, Lead Span 2.8mm, IPC High Density)
footprint MF06A_M (SOT23, 6-Leads, Body 2.9x1.6mm, Pitch 0.95mm, Lead Span 2.8mm, IPC Low Density)
pins: 1 V+ (power), 2 GND (power), 3 C1- (in), 4 ~{SD} (in), 5 OUT (power), 6 C1+ (in)

## LM2766M6X
designator U?
Switched Capacitor Voltage Converter, 6-pin SOT-23; PartNumber: LM2766M6X; Manufacturer: National Semiconductor; PackageTopMarking: S16B*XTT; PowerWise: N; CompType: Switch Caps; Published: 1-Mar-2010; DatasheetVersion: Mar-2000; PackageVersion: revC, Sep-2005; PackageReference: MF06A; Publisher: Altium Limited; PackageDescription: Molded SOT-23, .115 x .063 x .040in Body, 6 Lead, .0375in in Pitch; Supplier 1: Digi-Key; Supplier Part Number 1: LM2766M6X-ND; RoHS: N; PinCount: 6; Code_JEDEC: MO-178-AB; Code_IPC: SOT26A-6; ComponentLink1Description: LM2766 Datasheet; ComponentLink1URL: http://www.national.com/ds/LM/LM2766.pdf; ComponentLink2Description: LM2766 Web Page; ComponentLink2URL: http://www.national.com/pf/LM/LM2766.html; ComponentLink3Description: MF06A Package Page; ComponentLink3URL: http://www.national.com/packaging/folders/mf06a.html
footprint MF06A_N (SOT23, 6-Leads, Body 2.9x1.6mm, Pitch 0.95mm, Lead Span 2.8mm, IPC Medium Density)
footprint MF06A_L (SOT23, 6-Leads, Body 2.9x1.6mm, Pitch 0.95mm, Lead Span 2.8mm, IPC High Density)
footprint MF06A_M (SOT23, 6-Leads, Body 2.9x1.6mm, Pitch 0.95mm, Lead Span 2.8mm, IPC Low Density)
pins: 1 V+ (power), 2 GND (power), 3 C1- (in), 4 ~{SD} (in), 5 OUT (power), 6 C1+ (in)

## LM2766M6X/NOPB
designator U?
Switched Capacitor Voltage Converter, 6-pin SOT-23, Pb-Free; PartNumber: LM2766M6X/NOPB; Manufacturer: National Semiconductor; PackageTopMarking: S16B*XTT; PowerWise: N; CompType: Switch Caps; Published: 1-Mar-2010; DatasheetVersion: Mar-2000; PackageVersion: revC, Sep-2005; PackageReference: MF06A; Publisher: Altium Limited; PackageDescription: Molded SOT-23, .115 x .063 x .040in Body, 6 Lead, .0375in in Pitch; RoHS: Y; PinCount: 6; Code_JEDEC: MO-178-AB; Code_IPC: SOT26A-6; ComponentLink1Description: LM2766 Datasheet; ComponentLink1URL: http://www.national.com/ds/LM/LM2766.pdf; ComponentLink2Description: LM2766 Web Page; ComponentLink2URL: http://www.national.com/pf/LM/LM2766.html; ComponentLink3Description: MF06A Package Page; ComponentLink3URL: http://www.national.com/packaging/folders/mf06a.html
footprint MF06A_N (SOT23, 6-Leads, Body 2.9x1.6mm, Pitch 0.95mm, Lead Span 2.8mm, IPC Medium Density)
footprint MF06A_L (SOT23, 6-Leads, Body 2.9x1.6mm, Pitch 0.95mm, Lead Span 2.8mm, IPC High Density)
footprint MF06A_M (SOT23, 6-Leads, Body 2.9x1.6mm, Pitch 0.95mm, Lead Span 2.8mm, IPC Low Density)
pins: 1 V+ (power), 2 GND (power), 3 C1- (in), 4 ~{SD} (in), 5 OUT (power), 6 C1+ (in)

## LM2767M5
designator U?
Switched Capacitor Voltage Converter, 5-pin SOT-23; PartNumber: LM2767M5; Manufacturer: National Semiconductor; PackageTopMarking: S17B*XTT; PowerWise: N; CompType: Switch Caps; Published: 4-Dec-2008; DatasheetVersion: Feb-2000; PackageVersion: revD, Aug-2008; PackageReference: MF05A; Publisher: Altium Limited; PackageDescription: Molded SOT-23, .115 x .063 x .040 in Body, 5 Lead, .0375 in Pitch; Supplier 1: Farnell; Supplier Part Number 1: 1197392; RoHS: N; PinCount: 5; ComponentLink1Description: LM2767 Datasheet; ComponentLink1URL: http://www.national.com/ds/LM/LM2767.pdf; ComponentLink2Description: LM2767 Web Page; ComponentLink2URL: http://www.national.com/pf/LM/LM2767.html; ComponentLink3Description: MF05A Package Page; ComponentLink3URL: http://www.national.com/packaging/folders/mf05a.html
footprint MF05A_N (SOT23, 5-Leads, Body 2.9x1.6mm, Pitch 0.95mm, Lead Span 2.8mm, IPC Medium Density)
footprint MF05A_L (SOT23, 5-Leads, Body 2.9x1.6mm, Pitch 0.95mm, Lead Span 2.8mm, IPC High Density)
footprint MF05A_M (SOT23, 5-Leads, Body 2.9x1.6mm, Pitch 0.95mm, Lead Span 2.8mm, IPC Low Density)
pins: 1 OUT (power), 2 GND (power), 3 C1- (in), 4 V+ (power), 5 C1+ (in)